# Altium footprint library QUAN-AD-Library.PcbLib: 213 footprints (part 10 of 14)
Each footprint in its own frame and in the unit in brackets; x right, y up, seen from the top. Pads: shape width x height; smd on the part's side, far side on the other; paste and mask are expansions set on the pad; w line width, h text height; cw(c..) or ccw(c..) is an arc to the next point about the centre after c.
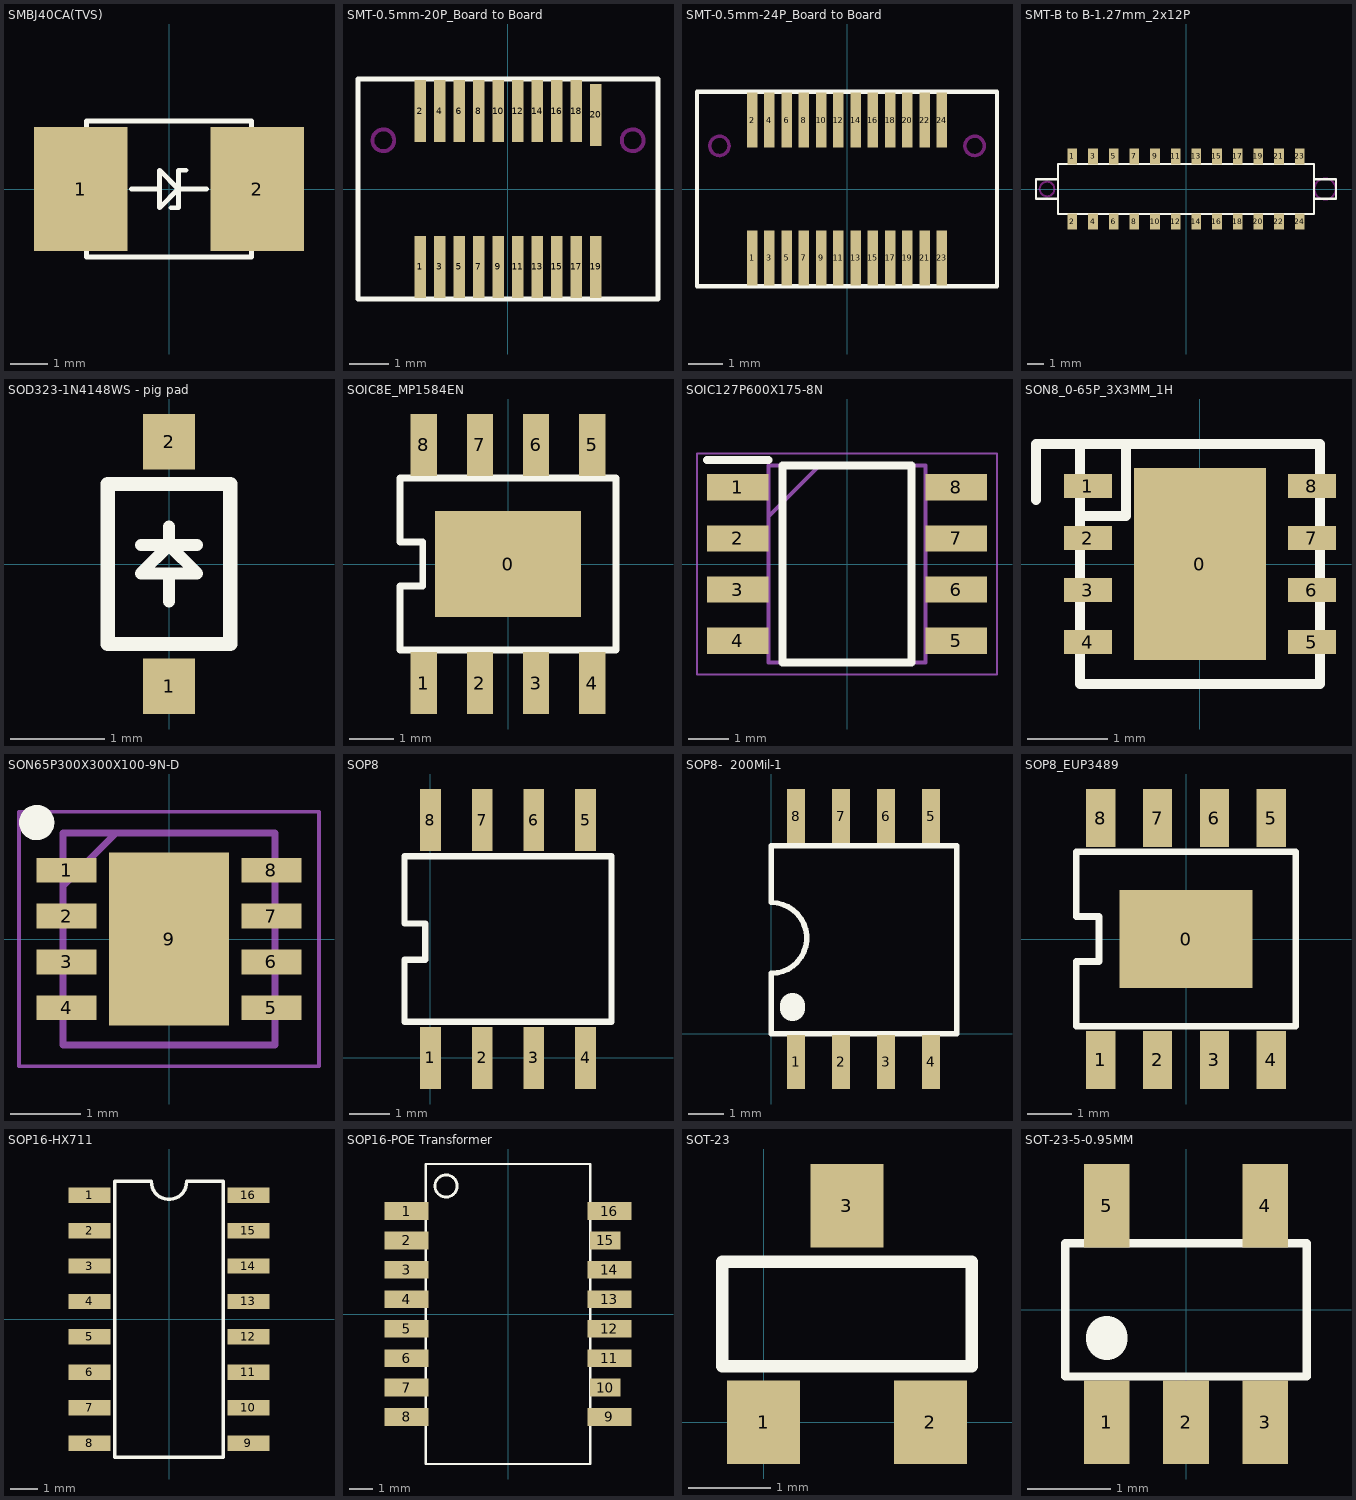
[diagram p9: the footprints below, top view; thin cyan lines are the x and y axes]

## SMBJ40CA(TVS) [mm] "SMBJ40CA(TVS)"
pads (2):
  rect 2.5x3.3 smd: 1(-2.35,0) 2(2.35,0)
Top Overlay:
  lines w0.127: -1,0 -0.25,0 ; 0.05,-0.5 0.25,-0.5 0.25,0.5 0.45,0.5 ; 1,0 0.25,0 ; 0.25,0 -0.25,0.5 -0.25,-0.5 0.25,0 ; -2.2,-1.813 2.2,-1.813 2.2,1.813 -2.2,1.813 -2.2,-1.813

## SMT-0.5mm-20P_Board to Board [mm] "SMT-0.5mm-20P_Board to Board"
pads (20):
  rect 0.3x1.6 smd: 1(-2.25,-2) 2(-2.25,2) 3(-1.75,-2) 4(-1.75,2) 5(-1.25,-2) 6(-1.25,2) 7(-0.75,-2) 8(-0.75,2) 9(-0.25,-2) 10(-0.25,2) 11(0.25,-2) 12(0.25,2) 13(0.75,-2) 14(0.75,2) 15(1.25,-2) 16(1.25,2) 17(1.75,-2) 18(1.75,2) 19(2.25,-2) 20(2.25,1.9)
Top Overlay:
  lines w0.127: -3.85,-2.825 -3.85,2.825 3.85,2.825 3.85,-2.825 -3.85,-2.825
Keep-Out Layer:
  circle w0.1: c3.2,1.25 r0.28
  circle w0.1: c-3.2,1.25 r0.28

## SMT-0.5mm-24P_Board to Board [mm] "SMT-0.5mm-24P_Board to Board"
pads (24):
  rect 0.3x1.6 smd: 1(-2.75,-2) 2(-2.75,2) 3(-2.25,-2) 4(-2.25,2) 5(-1.75,-2) 6(-1.75,2) 7(-1.25,-2) 8(-1.25,2) 9(-0.75,-2) 10(-0.75,2) 11(-0.25,-2) 12(-0.25,2) 13(0.25,-2) 14(0.25,2) 15(0.75,-2) 16(0.75,2) 17(1.25,-2) 18(1.25,2) 19(1.75,-2) 20(1.75,2) 21(2.25,-2) 22(2.25,2) 23(2.75,-2) 24(2.75,2)
Top Overlay:
  lines w0.127: -4.35,-2.825 4.35,-2.825 4.35,2.825 -4.35,2.825 -4.35,-2.825
Keep-Out Layer:
  circle w0.1: c-3.7,1.25 r0.28
  circle w0.1: c3.7,1.25 r0.28

## SMT-B to B-1.27mm_2x12P [mm] "SMT-B to B-1.27mm_2x12P"
pads (24):
  rect 0.6x1 smd: 1(-6.985,2) 2(-6.985,-2) 3(-5.715,2) 4(-5.715,-2) 5(-4.445,2) 6(-4.445,-2) 7(-3.175,2) 8(-3.175,-2) 9(-1.905,2) 10(-1.905,-2) 11(-0.635,2) 12(-0.635,-2) 13(0.635,2) 14(0.635,-2) 15(1.905,2) 16(1.905,-2) 17(3.175,2) 18(3.175,-2) 19(4.445,2) 20(4.445,-2) 21(5.715,2) 22(5.715,-2) 23(6.985,2) 24(6.985,-2)
Top Overlay:
  lines w0.127: -7.87,-0.6 -9.22,-0.6 -9.22,0.6 -7.87,0.6 ; 7.87,-0.6 9.22,-0.6 9.22,0.6 7.87,0.6 ; -7.87,-1.55 -7.87,1.55 7.87,1.55 7.87,-1.55 -7.87,-1.55
Keep-Out Layer:
  circle w0.127: c-8.545,0 r0.45
  circle w0.127: c8.545,0 r0.65

## SOD323-1N4148WS - pig pad [mm] "SOD323-1N4148WS"
pads (2):
  rect 0.55x0.59 smd: 1(0,-1.3) 2(0,1.3)
Top Overlay:
  lines w0.127: -0.3,0.2 0.3,0.2 ; 0,-0.4 0,-0.1 ; 0,0.4 0,0.2 ; 0,0.2 -0.3,-0.1 0.3,-0.1 0,0.2
  lines w0.152: -0.65,-0.85 -0.65,0.85 0.65,0.85 0.65,-0.85 -0.65,-0.85
3D body "User Library-SOD323F-1.sldprt": height 1, standoff 0, extent -0.675,-1.25 0.675,1.25

## SOIC8E_MP1584EN [mm] "SOIC8E_MP1584EN"
pads (9):
  rect 3.3x2.41 smd: 0(0,0)
  rect 0.6x1.4 smd: 1(-1.905,-2.7) 2(-0.635,-2.7) 3(0.635,-2.7) 4(1.905,-2.7) 5(1.905,2.7) 6(0.635,2.7) 7(-0.635,2.7) 8(-1.905,2.7)
Top Overlay:
  lines w0.152: -2.45,-0.5 -2.45,-1.95 2.45,-1.95 2.45,1.95 -2.45,1.95 -2.45,0.5 ; -2.442,-0.5 -1.934,-0.5 -1.934,0.5 -2.442,0.5

## SOIC127P600X175-8N [mm]
pads (8):
  rect 1.525x0.65 smd: 1(-2.712,1.905) 2(-2.712,0.635) 3(-2.712,-0.635) 4(-2.712,-1.905) 5(2.712,-1.905) 6(2.712,-0.635) 7(2.712,0.635) 8(2.712,1.905)
Top Overlay:
  lines w0.2: -3.475,2.58 -1.95,2.58 ; -1.6,-2.45 -1.6,2.45 1.6,2.45 1.6,-2.45 -1.6,-2.45
Mechanical 13:
  lines w0.1: -1.95,1.18 -0.68,2.45 ; -1.95,-2.45 -1.95,2.45 1.95,2.45 1.95,-2.45 -1.95,-2.45
Mechanical 15:
  lines w0.05: -3.725,-2.75 -3.725,2.75 3.725,2.75 3.725,-2.75 -3.725,-2.75
3D body "NE555DR.stp": height 1.75, standoff 0, extent -3,-2.45 3,2.45

## SON8_0-65P_3X3MM_1H [mm] "SON8_0-65P_3X3MM_1H"
pads (9):
  rect 1.65x2.4 smd mask+0.05: 0(0,0)
  rect 0.6x0.3 smd mask+0.07: 1(-1.4,0.975) 2(-1.4,0.325) 3(-1.4,-0.325) 4(-1.4,-0.975) 5(1.4,-0.975) 6(1.4,-0.325) 7(1.4,0.325) 8(1.4,0.975)
Top Overlay:
  lines w0.127: -2.05,0.8 -2.05,1.5 -1.5,1.5 ; -1.5,0.6 -0.925,0.6 -0.925,1.5 ; -1.5,1.5 1.5,1.5 1.5,-1.5 -1.5,-1.5 -1.5,1.5

## SON65P300X300X100-9N-D [mm]
pads (9):
  rect 0.85x0.35 smd: 1(-1.45,0.975) 2(-1.45,0.325) 3(-1.45,-0.325) 4(-1.45,-0.975) 5(1.45,-0.975) 6(1.45,-0.325) 7(1.45,0.325) 8(1.45,0.975)
  rect 1.7x2.45 smd: 9(0,0)
Top Overlay:
  circle w0.25: c-1.875,1.65 r0.125
Mechanical 13:
  lines w0.1: -1.5,0.75 -0.75,1.5 ; -1.5,-1.5 -1.5,1.5 1.5,1.5 1.5,-1.5 -1.5,-1.5
Mechanical 15:
  lines w0.05: -2.125,-1.8 -2.125,1.8 2.125,1.8 2.125,-1.8 -2.125,-1.8
3D body "SN65HVD75DRBT.stp": height 1, standoff 0, extent -1.55,-1.5 1.55,1.5

## SOP8 [mil]
pads (8):
  rect 20x60 smd: 1(0,0) 2(50,0) 3(100,0) 4(150,0) 5(150,230) 6(100,230) 7(50,230) 8(0,230)
Top Overlay:
  lines w6: -25,35 175,35 175,195 -25,195 -25,130 -5,130 -5,95 -25,95 -25,35

## SOP8-  200Mil-1 [mil] "SOP8-  200Mil-1"
pads (8):
  rect 20x60 smd: 1(27.56,-31.5) 2(77.56,-31.5) 3(127.56,-31.5) 4(177.56,-31.5) 5(177.56,241.81) 6(127.56,241.81) 7(77.56,241.81) 8(27.56,241.81)
Top Overlay:
  lines w6: 0,0 0,66.93 ccw(c0,106.3) 0,145.67 0,208.66 205.91,208.66 205.91,0 0,0
  lines w27.56: 23.62,27.56 23.62,31.5

## SOP8_EUP3489 [mm] "SOP8_EUP3489"
pads (9):
  rect 2.97x2.18 smd: 0(0,0)
  rect 0.65x1.3 smd: 1(-1.905,-2.7) 2(-0.635,-2.7) 3(0.635,-2.7) 4(1.905,-2.7) 5(1.905,2.7) 6(0.635,2.7) 7(-0.635,2.7) 8(-1.905,2.7)
Top Overlay:
  lines w0.152: -2.45,-1.95 -2.45,-0.5 -1.942,-0.5 -1.942,0.5 -2.45,0.5 -2.45,1.95 2.45,1.95 2.45,-1.95 -2.45,-1.95

## SOP16-HX711 [mm] "SOP16-HX711"
pads (16):
  rect 1.5x0.55 smd: 1(-2.85,4.445) 2(-2.85,3.175) 3(-2.85,1.905) 4(-2.85,0.635) 5(-2.85,-0.635) 6(-2.85,-1.905) 7(-2.85,-3.175) 8(-2.85,-4.445) 9(2.85,-4.445) 10(2.85,-3.175) 11(2.85,-1.905) 12(2.85,-0.635) 13(2.85,0.635) 14(2.85,1.905) 15(2.85,3.175) 16(2.85,4.445)
Top Overlay:
  lines w0.127: -0.635,4.93 ccw(c0,4.93) 0.635,4.93 ; -0.635,4.95 -1.95,4.95 -1.95,-4.95 1.95,-4.95 1.95,4.95 0.635,4.95

## SOP16-POE Transformer [mm] "SOP16-POE Transformer"
pads (16):
  rect 1.9x0.76 smd: 1(-4.38,4.445) 2(-4.38,3.175) 3(-4.38,1.905) 4(-4.38,0.635) 5(-4.38,-0.635) 6(-4.38,-1.905) 7(-4.38,-3.175) 8(-4.38,-4.445) 9(4.38,-4.445) 11(4.38,-1.905) 12(4.38,-0.635) 13(4.38,0.635) 14(4.38,1.905) 16(4.38,4.445)
  rect 1.3x0.76 smd: 10(4.2,-3.175) 15(4.2,3.175)
Top Overlay:
  circle w0.127: c-2.678,5.525 r0.478
  lines w0.1: -3.555,-6.475 3.555,-6.475 3.555,6.475 -3.555,6.475 -3.555,-6.475

## SOT-23 [mil]
pads (3):
  rect 35x40 smd: 1(0,0) 2(80,0) 3(40,104)
Top Overlay:
  lines w6: -20,27 -20,77 100,77 100,27 -20,27
3D body "ALSRobot-SOT23.sldprt": height 42.52, standoff 0, extent -19.06,0.03 99.06,103.97

## SOT-23-5-0.95MM [mm] "SOT-23-5-0.95MM"
pads (5):
  rect 0.55x1 smd: 1(-0.95,-1.35) 2(0,-1.35) 3(0.95,-1.35) 4(0.95,1.25) 5(-0.95,1.25)
Top Overlay:
  lines w0.1: -1.45,-0.8 -1.45,0.8 1.45,0.8 1.45,-0.8 -1.45,-0.8
  lines w0.5: -0.95,-0.35 -0.95,-0.325
3D body "CircuitWorks-SOT-23-5.sldprt": height 1.1, standoff 0, extent -1.5,-1.25 1.5,1.25